# Altium schematic symbol library BSPD_Schlib.SchLib: 42 symbols (part 3 of 3)
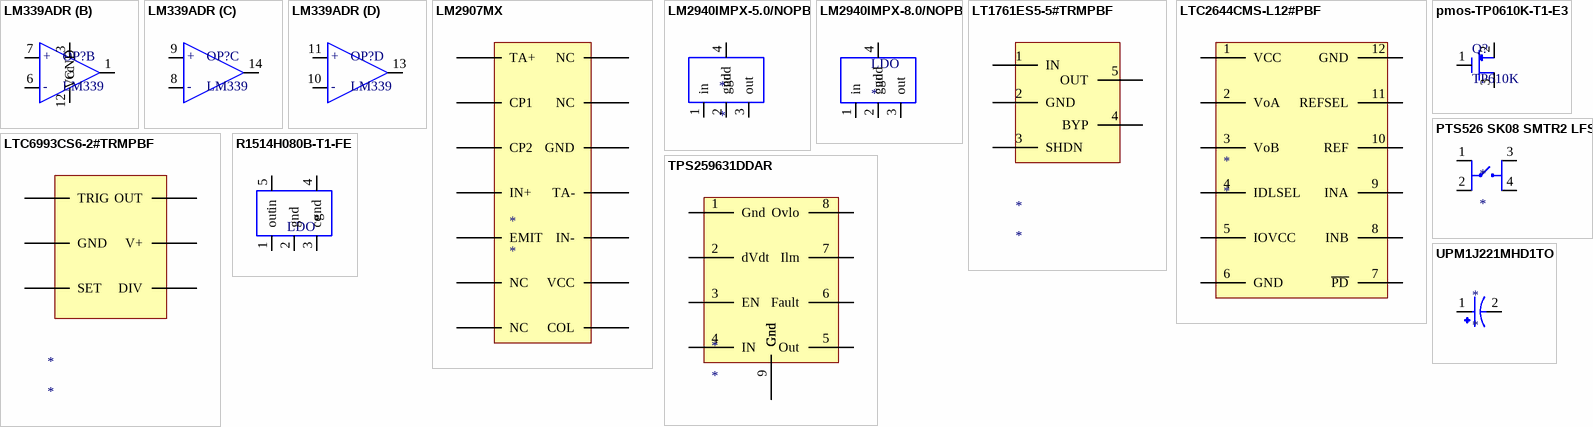
[diagram p3: symbols LM339ADR to UPM1J221MHD1TO]

## LM2940IMPX-5.0/NOPB
designator *
1-A, 26-V, high-PSRR, low-dropout voltage regulator 4-SOT-223 -40 to 85; Manufacturer: Texas Instruments; Manufacturer Part Number: LM2940IMPX-5.0/NOPB; Max Input Voltage: 26V; Output Voltage: 5V; Output Current: 1A; Number of Outputs: 1; Dropout Voltage: 500mV; Min Input Voltage: 6.25V; Polarity: Positive; Quiescent Current: 15mA; Output Type: Fixed; Supplier 1: Mouser; Supplier Part Number 1: 926-LM2940IMPX50NOPB; Stock 1: 2582; Pricing 1: 1 = 1.56000, 10 = 1.32000, 50 = 1.32000, 100 = 1.06000, 1000 = 0.71300, 10000 = 0.65000 (USD); Mount: Surface Mount; Case/Package: SOT-223; Number of Pins: 4; Contact Plating: Tin; Min Operating Temperature: -40°C; Max Operating Temperature: 125°C; Package Quantity: 2000; Packaging: Tape and Reel; Number of Regulators: 1; Max Output Current: 1A; Radiation Hardening: No; Lead Free: Lead Free; RoHS Compliant: Yes; ComponentLink1URL: https://datasheet.ciiva.com/15111/getdatasheetpartid-97988-15111694.pdf?src-supplier=Verical; ComponentLink1Description: https://datasheet.ciiva.com/15111/getdatasheetpartid-97988-15111694.pdf?src-supplier=Verical; ComponentLink2URL: https://datasheet.ciiva.com/6591/lm2940-n-6591606.pdf?src-supplier=Digi-Key; ComponentLink2Description: https://datasheet.ciiva.com/6591/lm2940-n-6591606.pdf?src-supplier=Digi-Key; ComponentLink3URL: https://datasheet.ciiva.com/6591/lm2940-n-6591605.pdf?src-supplier=Digi-Key; ComponentLink3Description: https://datasheet.ciiva.com/6591/lm2940-n-6591605.pdf?src-supplier=Digi-Key; ComponentLink4URL: https://octopart.com/click/track?ai=10049&ct=datasheets&sig=032ce27&at=physicalpart&sid=370&ppid=24813560&hlid=29978094&src-supplier=TI+store; ComponentLink4Description: https://octopart.com/click/track?ai=10049&ct=datasheets&sig=032ce27&at=physicalpart&sid=370&ppid=24813560&hlid=29978094&src-supplier=TI+store; ComponentLink5URL: http://datasheet.octopart.com/LM2940IMPX-5.0/NOPB-Texas-Instruments-datasheet-10621823.pdf?src-supplier=Verical; ComponentLink5Description: http://datasheet.octopart.com/LM2940IMPX-5.0/NOPB-Texas-Instruments-datasheet-10621823.pdf?src-supplier=Verical; ComponentLink6URL: http://datasheet.octopart.com/LM2940IMPX-5.0-NOPB-Texas-Instruments-datasheet-14775597.pdf?src-supplier=TI+store; ComponentLink6Description: http://datasheet.octopart.com/LM2940IMPX-5.0-NOPB-Texas-Instruments-datasheet-14775597.pdf?src-supplier=TI+store; ComponentLink7URL: http://datasheet.octopart.com/LM2940IMPX-5.0-NOPB-Texas-Instruments-datasheet-34156496.pdf?src-supplier=TI+store; ComponentLink7Description: http://datasheet.octopart.com/LM2940IMPX-5.0-NOPB-Texas-Instruments-datasheet-34156496.pdf?src-supplier=TI+store; ComponentLink8URL: http://datasheet.octopart.com/LM2940IMPX-5.0-NOPB-Texas-Instruments-datasheet-37140193.pdf?src-supplier=TI+store; ComponentLink8Description: http://datasheet.octopart.com/LM2940IMPX-5.0-NOPB-Texas-Instruments-datasheet-37140193.pdf?src-supplier=TI+store; ComponentLink9URL: http://sigma.octopart.com/49253063/technical_drawing/Texas-Instruments-LM2940IMPX-5.0-NOPB.pdf?src-supplier=TI+store; ComponentLink9Description: http://sigma.octopart.com/49253063/technical_drawing/Texas-Instruments-LM2940IMPX-5.0-NOPB.pdf?src-supplier=TI+store; ComponentLink10URL: http://datasheet.octopart.com/LM2940IMPX-5.0/NOPB-National-Semiconductor-datasheet-134675.pdf?src-supplier=Verical; ComponentLink10Description: http://datasheet.octopart.com/LM2940IMPX-5.0/NOPB-National-Semiconductor-datasheet-134675.pdf?src-supplier=Verical; ComponentLink11URL: http://datasheet.octopart.com/LM2940IMPX-5.0-NOPB-Texas-Instruments-datasheet-17727429.pdf?src-supplier=Upverter; ComponentLink11Description: http://datasheet.octopart.com/LM2940IMPX-5.0-NOPB-Texas-Instruments-datasheet-17727429.pdf?src-supplier=Upverter
pins: 1 in, 2 gnd, 3 out, 4 gnd

## LM2940IMPX-8.0/NOPB
designator LDO
LDO Regulator Pos 8V 1A 4-Pin(3+Tab) SOT-223 T/R; Manufacturer: Texas Instruments; Manufacturer Part Number: LM2940IMPX-8.0/NOPB; Dropout Voltage: 500mV; Number of Outputs: 1; Min Input Voltage: 9.4V; Max Input Voltage: 26V; Polarity: Positive; Quiescent Current: 15mA; Output Type: Fixed; Supplier 1: Mouser; Stock 1: 3837; Pricing 1: 1 = 1.55000, 10 = 1.32000, 100 = 1.05000, 500 = 0.92300, 1000 = 0.76500, 2000 = 0.71200 (USD); Mount: Surface Mount; Case/Package: TO-261-4; Number of Pins: 4; Min Operating Temperature: -40°C; Max Operating Temperature: 125°C; Packaging: Tape and Reel; Output Voltage: 8V; Package Quantity: 2000; Output Current: 1A; Max Output Current: 1A; Number of Regulators: 1; Radiation Hardening: No; Lead Free: Lead Free; ComponentLink1URL: https://datasheet.ciiva.com/6583/lm2940-n-6583894.pdf?src-supplier=Digi-Key; ComponentLink1Description: https://datasheet.ciiva.com/6583/lm2940-n-6583894.pdf?src-supplier=Digi-Key; ComponentLink2URL: https://datasheet.ciiva.com/14275/lm2940c-14275563.pdf?src-supplier=Avnet; ComponentLink2Description: https://datasheet.ciiva.com/14275/lm2940c-14275563.pdf?src-supplier=Avnet; ComponentLink3URL: https://datasheet.ciiva.com/26170/lm2940c-26170414.pdf?src-supplier=Avnet+Europe; ComponentLink3Description: https://datasheet.ciiva.com/26170/lm2940c-26170414.pdf?src-supplier=Avnet+Europe; ComponentLink4URL: https://octopart.com/click/track?ai=8629&ct=datasheets&sig=0204b2a&at=physicalpart&sid=370&ppid=24845755&hlid=24887964&src-supplier=TI+store; ComponentLink4Description: https://octopart.com/click/track?ai=8629&ct=datasheets&sig=0204b2a&at=physicalpart&sid=370&ppid=24845755&hlid=24887964&src-supplier=TI+store; ComponentLink5URL: http://datasheet.octopart.com/LM2940IMPX-8.0/NOPB-Texas-Instruments-datasheet-10621823.pdf?src-supplier=TI+store; ComponentLink5Description: http://datasheet.octopart.com/LM2940IMPX-8.0/NOPB-Texas-Instruments-datasheet-10621823.pdf?src-supplier=TI+store; ComponentLink6URL: http://datasheet.octopart.com/LM2940IMPX-8.0-NOPB-Texas-Instruments-datasheet-14775597.pdf?src-supplier=TI+store; ComponentLink6Description: http://datasheet.octopart.com/LM2940IMPX-8.0-NOPB-Texas-Instruments-datasheet-14775597.pdf?src-supplier=TI+store; ComponentLink7URL: http://datasheet.octopart.com/LM2940IMPX-8.0-NOPB-Texas-Instruments-datasheet-34156496.pdf?src-supplier=TI+store; ComponentLink7Description: http://datasheet.octopart.com/LM2940IMPX-8.0-NOPB-Texas-Instruments-datasheet-34156496.pdf?src-supplier=TI+store; ComponentLink8URL: http://datasheet.octopart.com/LM2940IMPX-8.0-NOPB-Texas-Instruments-datasheet-37140193.pdf?src-supplier=TI+store; ComponentLink8Description: http://datasheet.octopart.com/LM2940IMPX-8.0-NOPB-Texas-Instruments-datasheet-37140193.pdf?src-supplier=TI+store; ComponentLink9URL: http://sigma.octopart.com/49253063/technical_drawing/Texas-Instruments-LM2940IMPX-8.0-NOPB.pdf?src-supplier=TI+store; ComponentLink9Description: http://sigma.octopart.com/49253063/technical_drawing/Texas-Instruments-LM2940IMPX-8.0-NOPB.pdf?src-supplier=TI+store; Supplier Part Number 1: 926-LM2940IMPX80NOPB
footprint LM2940IMPX-8.0/NOPB (SOT223, 4-Leads, Body 6.50x7.00mm (avg), Pitch 2.30mm, IPC Medium Density)
pins: 1 in, 2 gnd, 3 out, 4 gnd

## LT1761ES5-5#TRMPBF
designator *
LDO Regulator Pos 5V 0.1A Automotive 5-Pin TSOT-23 T/R; Manufacturer: Analog Devices / Linear Technology; Manufacturer Part Number: LT1761ES5-5#TRMPBF; Output Current: 100mA; Max Supply Voltage: 20V; Min Supply Voltage: 6V; Dropout Voltage: 300mV; Number of Outputs: 1; Min Input Voltage: 1.8V; Min Current Limit: 110mA; Quiescent Current: 20uA; Reference Voltage: 1.22V; Polarity: Positive; Power Supply Rejection Ratio (PSRR): 65dB; Output Type: Fixed; Supplier 1: Mouser; Supplier Part Number 1: 584-1761ES5-5TRMPBF; Stock 1: 51765; Pricing 1: 1 = 2.71000, 10 = 2.44000, 50 = 2.44000, 100 = 1.66000, 1000 = 1.24000, 10000 = 1.22000 (USD); Case/Package: TSOT; Number of Pins: 5; Min Operating Temperature: -40°C; Max Operating Temperature: 125°C; Max Output Current: 100mA; Package Quantity: 1; Output Voltage: 5V; Packaging: Tape and Reel; Max Input Voltage: 20V; Nominal Output Voltage: 5V; Number of Regulators: 1; Max Output Voltage: 5V; Termination: SMD/SMT; Operating Supply Current: 20uA; Series: -; Length: 2.9mm; Width: 1.5mm; Height: 0.9mm; REACH SVHC: No SVHC; Lead Free: Lead Free; RoHS Compliant: Yes; ComponentLink1URL: https://datasheet.ciiva.com/26905/lt1761es5-5-trmpbf-26905850.pdf?src-supplier=IIIC; ComponentLink1Description: https://datasheet.ciiva.com/26905/lt1761es5-5-trmpbf-26905850.pdf?src-supplier=IIIC; ComponentLink2URL: https://datasheet.ciiva.com/2041/2732-2041144.pdf?src-supplier=Digi-Key; ComponentLink2Description: https://datasheet.ciiva.com/2041/2732-2041144.pdf?src-supplier=Digi-Key; ComponentLink3URL: https://datasheet.ciiva.com/2041/2732-2041145.pdf?src-supplier=Digi-Key; ComponentLink3Description: https://datasheet.ciiva.com/2041/2732-2041145.pdf?src-supplier=Digi-Key; ComponentLink4URL: https://datasheet.ciiva.com/2041/2732-2041146.pdf?src-supplier=Digi-Key; ComponentLink4Description: https://datasheet.ciiva.com/2041/2732-2041146.pdf?src-supplier=Digi-Key; ComponentLink5URL: https://datasheet.ciiva.com/8041/1563033-8041754.pdf?src-supplier=Element14; ComponentLink5Description: https://datasheet.ciiva.com/8041/1563033-8041754.pdf?src-supplier=Element14; ComponentLink6URL: http://datasheet.octopart.com/LT1761ES5-5%23TRMPBF-Linear-Technology-datasheet-10685672.pdf?src-supplier=Upverter; ComponentLink6Description: http://datasheet.octopart.com/LT1761ES5-5%23TRMPBF-Linear-Technology-datasheet-10685672.pdf?src-supplier=Upverter; ComponentLink7URL: http://datasheet.octopart.com/LT1761ES5-5%23TRMPBF-Linear-Technology-datasheet-508795.pdf?src-supplier=Component+Distributors+Inc.; ComponentLink7Description: http://datasheet.octopart.com/LT1761ES5-5%23TRMPBF-Linear-Technology-datasheet-508795.pdf?src-supplier=Component+Distributors+Inc.; ComponentLink8URL: http://datasheet.octopart.com/LT1761ES5-5%23TRMPBF-Linear-Technology-datasheet-10379881.pdf?src-supplier=Farnell; ComponentLink8Description: http://datasheet.octopart.com/LT1761ES5-5%23TRMPBF-Linear-Technology-datasheet-10379881.pdf?src-supplier=Farnell; ComponentLink9URL: http://datasheet.octopart.com/LT1761ES5-5%23TRMPBF-Linear-Technology-datasheet-8105272.pdf?src-supplier=Nu+Horizons; ComponentLink9Description: http://datasheet.octopart.com/LT1761ES5-5%23TRMPBF-Linear-Technology-datasheet-8105272.pdf?src-supplier=Nu+Horizons; ComponentLink10URL: http://datasheet.octopart.com/LT1761ES5-5%23TRMPBF-Linear-Technology-datasheet-8467011.pdf?src-supplier=Nu+Horizons; ComponentLink10Description: http://datasheet.octopart.com/LT1761ES5-5%23TRMPBF-Linear-Technology-datasheet-8467011.pdf?src-supplier=Nu+Horizons; ComponentLink11URL: http://datasheet.octopart.com/LT1761ES5-5%23TRMPBF-Linear-Technology-datasheet-526547.pdf?src-supplier=Farnell; ComponentLink11Description: http://datasheet.octopart.com/LT1761ES5-5%23TRMPBF-Linear-Technology-datasheet-526547.pdf?src-supplier=Farnell; ComponentLink12URL: http://datasheet.octopart.com/LT1761ES5-5%23TRMPBF-Linear-Technology-datasheet-530213.pdf?src-supplier=Farnell; ComponentLink12Description: http://datasheet.octopart.com/LT1761ES5-5%23TRMPBF-Linear-Technology-datasheet-530213.pdf?src-supplier=Farnell; ComponentLink13URL: http://datasheet.octopart.com/LT1761ES5-5%23TRMPBF-Linear-Technology-datasheet-15918907.pdf?src-supplier=IIIC; ComponentLink13Description: http://datasheet.octopart.com/LT1761ES5-5%23TRMPBF-Linear-Technology-datasheet-15918907.pdf?src-supplier=IIIC; ComponentLink14URL: http://sigma.octopart.com/57691980/technical_drawing/Linear-Technology-LT1761ES5-5%23TRMPBF.pdf?src-supplier=Linear+Technology; ComponentLink14Description: http://sigma.octopart.com/57691980/technical_drawing/Linear-Technology-LT1761ES5-5%23TRMPBF.pdf?src-supplier=Linear+Technology; Supplier 2: Mouser; Supplier Part Number 2: 595-TPS259631DDAR; Stock 2: 3910; Pricing 2: 1 = 0.86000, 10 = 0.78200, 50 = 0.78200, 100 = 0.57000, 1000 = 0.37100, 10000 = 0.33700 (USD); ComponentLink15URL: https://octopart.com/click/track?ai=10049&ct=datasheets&sig=07573b3&at=physicalpart&sid=370&ppid=103943074&hlid=30203718&src-supplier=TI+store; ComponentLink15Description: https://octopart.com/click/track?ai=10049&ct=datasheets&sig=07573b3&at=physicalpart&sid=370&ppid=103943074&hlid=30203718&src-supplier=TI+store; ComponentLink16URL: http://sigma.octopart.com/104526336/technical_drawing/Texas-Instruments-TPS259631DDAR.pdf?src-supplier=TI+store; ComponentLink16Description: http://sigma.octopart.com/104526336/technical_drawing/Texas-Instruments-TPS259631DDAR.pdf?src-supplier=TI+store; ComponentLink17URL: http://datasheet.octopart.com/TPS259631DDAR-Texas-Instruments-datasheet-149164929.pdf?src-supplier=Upverter; ComponentLink17Description: http://datasheet.octopart.com/TPS259631DDAR-Texas-Instruments-datasheet-149164929.pdf?src-supplier=Upverter
pins: 1 IN, 2 GND, 3 SHDN, 4 BYP, 5 OUT

## LTC2644CMS-L12#PBF
designator *
Digital To Analog Converter Dac, Dual, 12 Bit, Msop-12; Manufacturer: Analog Devices; Manufacturer Part Number: LTC2644CMS-L12#PBF; Resolution: 12b; Number of Bits: 12; Number of D/A Converters: 2; Settling Time: 7.8us; Differential Output: No; Interface: PWM; Sampling Rate: 6.25KS/s; Supplier 1: Mouser; Supplier Part Number 1: 584-C2644CMS-L12PBF; Stock 1: 642; Pricing 1: 1 = 6.21000, 10 = 5.61000, 50 = 4.90000, 100 = 4.20000, 1000 = 3.47000, 10000 = 3.47000 (USD); Case/Package: MSOP; Number of Pins: 12; Min Operating Temperature: 0°C; Max Operating Temperature: 70°C; Packaging: Rail/Tube; REACH SVHC: No SVHC; ComponentLink1URL: http://www.farnell.com/datasheets/2265704.pdf?src-supplier=Farnell; ComponentLink1Description: http://www.farnell.com/datasheets/2265704.pdf?src-supplier=Farnell; ComponentLink2URL: http://www.linear.com/docs/45234?src-supplier=Digi-Key; ComponentLink2Description: http://www.linear.com/docs/45234?src-supplier=Digi-Key; ComponentLink3URL: http://datasheet.octopart.com/LTC2644CMS-L12%23PBF-Linear-Technology-datasheet-32866045.pdf?src-supplier=Linear+Technology; ComponentLink3Description: http://datasheet.octopart.com/LTC2644CMS-L12%23PBF-Linear-Technology-datasheet-32866045.pdf?src-supplier=Linear+Technology; ComponentLink4URL: http://datasheet.octopart.com/LTC2644CMS-L12%23PBF-Linear-Technology-datasheet-81453756.pdf?src-supplier=Newark; ComponentLink4Description: http://datasheet.octopart.com/LTC2644CMS-L12%23PBF-Linear-Technology-datasheet-81453756.pdf?src-supplier=Newark; ComponentLink5URL: http://sigma.octopart.com/57695431/technical_drawing/Linear-Technology-LTC2644CMS-L12%23PBF.pdf?src-supplier=Linear+Technology; ComponentLink5Description: http://sigma.octopart.com/57695431/technical_drawing/Linear-Technology-LTC2644CMS-L12%23PBF.pdf?src-supplier=Linear+Technology
footprint SOP65P490X110-12N
pins: 1 VCC, 2 VoA, 3 VoB, 4 IDLSEL, 5 IOVCC, 6 GND, 7 ~{PD}, 8 INB, 9 INA, 10 REF, 11 REFSEL, 12 GND

## LTC6993CS6-2#TRMPBF
designator *
Monostable Multivibrator Single-Element 0°C 70°C Automotive 6-Pin TSOT-23 T/R; Manufacturer: Analog Devices / Linear Technology; Manufacturer Part Number: LTC6993CS6-2#TRMPBF; Propagation Delay: 11ns; Min Supply Voltage: 2.25V; Max Supply Voltage: 5.5V; Number of Timers/Counters: 1; High Level Output Current: -16mA; Low Level Output Current: 16mA; Turn-On Delay Time: 28ns; Schmitt Trigger Input: No; Supplier 1: Mouser; Supplier Part Number 1: 584-C6993CS6-2TRMPBF; Stock 1: 27266; Pricing 1: 1 = 3.53000, 10 = 3.17000, 50 = 2.66000, 100 = 2.27000, 1000 = 1.77000, 10000 = 1.75000 (USD); Case/Package: SOT-23-6; Number of Pins: 6; Min Operating Temperature: 0°C; Max Operating Temperature: 70°C; Package Quantity: 1; Packaging: Tape and Reel; Number of Elements: 1; Logic Function: Multivibrator; Independent Circuits: 1; Series: LTC®6993; Radiation Hardening: No; REACH SVHC: No SVHC; RoHS Compliant: Yes; ComponentLink1URL: https://datasheet.ciiva.com/1885/29726-1885040.pdf?src-supplier=Digi-Key; ComponentLink1Description: https://datasheet.ciiva.com/1885/29726-1885040.pdf?src-supplier=Digi-Key; ComponentLink2URL: https://datasheet.ciiva.com/15095/getdatasheetpartid-365076-15095264.pdf?src-supplier=Verical; ComponentLink2Description: https://datasheet.ciiva.com/15095/getdatasheetpartid-365076-15095264.pdf?src-supplier=Verical; ComponentLink3URL: https://datasheet.ciiva.com/1885/29726-1885041.pdf?src-supplier=Digi-Key; ComponentLink3Description: https://datasheet.ciiva.com/1885/29726-1885041.pdf?src-supplier=Digi-Key; ComponentLink4URL: https://datasheet.ciiva.com/28646/1642036-28646037.pdf?src-supplier=Element14; ComponentLink4Description: https://datasheet.ciiva.com/28646/1642036-28646037.pdf?src-supplier=Element14; ComponentLink5URL: https://datasheet.ciiva.com/1142/1441932-1142200.pdf?src-supplier=Farnell; ComponentLink5Description: https://datasheet.ciiva.com/1142/1441932-1142200.pdf?src-supplier=Farnell; ComponentLink6URL: https://datasheet.ciiva.com/1142/1441932-1142201.pdf?src-supplier=Farnell; ComponentLink6Description: https://datasheet.ciiva.com/1142/1441932-1142201.pdf?src-supplier=Farnell; ComponentLink7URL: https://datasheet.ciiva.com/1139/1642036-1139629.pdf?src-supplier=Element14; ComponentLink7Description: https://datasheet.ciiva.com/1139/1642036-1139629.pdf?src-supplier=Element14; ComponentLink8URL: https://datasheet.ciiva.com/31419/1642036-31419357.pdf?src-supplier=Farnell; ComponentLink8Description: https://datasheet.ciiva.com/31419/1642036-31419357.pdf?src-supplier=Farnell; ComponentLink9URL: https://datasheet.ciiva.com/1885/29726-1885039.pdf?src-supplier=Digi-Key; ComponentLink9Description: https://datasheet.ciiva.com/1885/29726-1885039.pdf?src-supplier=Digi-Key; ComponentLink10URL: http://datasheet.octopart.com/LTC6993CS6-2%23TRMPBF-Linear-Technology-datasheet-10978048.pdf?src-supplier=TME; ComponentLink10Description: http://datasheet.octopart.com/LTC6993CS6-2%23TRMPBF-Linear-Technology-datasheet-10978048.pdf?src-supplier=TME; ComponentLink11URL: http://datasheet.octopart.com/LTC6993CS6-2%23TRMPBF-Linear-Technology-datasheet-58871654.pdf?src-supplier=Farnell; ComponentLink11Description: http://datasheet.octopart.com/LTC6993CS6-2%23TRMPBF-Linear-Technology-datasheet-58871654.pdf?src-supplier=Farnell; ComponentLink12URL: http://datasheet.octopart.com/LTC6993CS6-2%23TRMPBF-Linear-Technology-datasheet-10027958.pdf?src-supplier=Element14; ComponentLink12Description: http://datasheet.octopart.com/LTC6993CS6-2%23TRMPBF-Linear-Technology-datasheet-10027958.pdf?src-supplier=Element14; ComponentLink13URL: http://datasheet.octopart.com/LTC6993CS6-2%23TRMPBF-Linear-Technology-datasheet-10653347.pdf?src-supplier=Arrow+Electronics; ComponentLink13Description: http://datasheet.octopart.com/LTC6993CS6-2%23TRMPBF-Linear-Technology-datasheet-10653347.pdf?src-supplier=Arrow+Electronics; ComponentLink14URL: http://datasheet.octopart.com/LTC6993CS6-2%23TRMPBF-Linear-Technology-datasheet-10379881.pdf?src-supplier=Farnell; ComponentLink14Description: http://datasheet.octopart.com/LTC6993CS6-2%23TRMPBF-Linear-Technology-datasheet-10379881.pdf?src-supplier=Farnell; ComponentLink15URL: http://sigma.octopart.com/57691988/technical_drawing/Linear-Technology-LTC6993CS6-2%23TRMPBF.pdf?src-supplier=Linear+Technology; ComponentLink15Description: http://sigma.octopart.com/57691988/technical_drawing/Linear-Technology-LTC6993CS6-2%23TRMPBF.pdf?src-supplier=Linear+Technology
footprint TSOT-23_S6
pins: 1 TRIG, 2 GND, 3 SET, 4 DIV, 5 V+, 6 OUT

## pmos-TP0610K-T1-E3
designator Q?, comment TP610K
Mosfet; P-ch; Vdss -60V; Rds(on) 10 Ohms; Id -185MA; TO-236 (SOT-23); Pd 350MW; -55DEGC; Manufacturer: Vishay; Manufacturer Part Number: TP0610K-T1-E3; Number of Elements: 1; Nominal Vgs: -3V; Rds On Max: 6R; Input Capacitance: 23pF; Drain to Source Voltage (Vdss): 60V; Continuous Drain Current (ID): 185mA; Drain to Source Resistance: 10R; Gate to Source Voltage (Vgs): 20V; Turn-On Delay Time: 20ns; Element Configuration: Single; Supplier 1: Mouser; Supplier Part Number 1: 781-TP0610K-E3; Stock 1: 32221; Pricing 1: 1 = 0.38000, 10 = 0.31200, 100 = 0.21900, 500 = 0.16400, 1000 = 0.13700, 3000 = 0.13000 (USD); Mount: Surface Mount; Case/Package: TO-236; Number of Pins: 3; Weight: 0.050717oz; Min Operating Temperature: -55°C; Max Operating Temperature: 150°C; Max Power Dissipation: 350mW; Packaging: Tape and Reel; Package Quantity: 1; Power Dissipation: 350mW; Threshold Voltage: -3V; Drain to Source Breakdown Voltage: -60V; Number of Channels: 1; On-State Resistance: 10R; Length: 3.04mm; Height: 1.02mm; Width: 1.4mm; Radiation Hardening: No; REACH SVHC: Unknown; Lead Free: Lead Free; ComponentLink1URL: https://datasheet.ciiva.com/7371/1747937-7371045.pdf?src-supplier=Newark; ComponentLink1Description: https://datasheet.ciiva.com/7371/1747937-7371045.pdf?src-supplier=Newark; ComponentLink2URL: https://datasheet.ciiva.com/26942/getdatasheetpartid-110418-26942995.pdf?src-supplier=Verical; ComponentLink2Description: https://datasheet.ciiva.com/26942/getdatasheetpartid-110418-26942995.pdf?src-supplier=Verical; ComponentLink3URL: https://datasheet.ciiva.com/26790/tp0610k-t1-e3-26790388.pdf?src-supplier=IIIC; ComponentLink3Description: https://datasheet.ciiva.com/26790/tp0610k-t1-e3-26790388.pdf?src-supplier=IIIC; ComponentLink4URL: https://datasheet.ciiva.com/18432/70026028-18432550.pdf?src-supplier=Allied+Electronics; ComponentLink4Description: https://datasheet.ciiva.com/18432/70026028-18432550.pdf?src-supplier=Allied+Electronics; ComponentLink5URL: https://datasheet.ciiva.com/22754/1747937-22754554.pdf?src-supplier=Farnell; ComponentLink5Description: https://datasheet.ciiva.com/22754/1747937-22754554.pdf?src-supplier=Farnell; ComponentLink6URL: https://datasheet.ciiva.com/7789/1747937-7789084.pdf?src-supplier=Element14; ComponentLink6Description: https://datasheet.ciiva.com/7789/1747937-7789084.pdf?src-supplier=Element14; ComponentLink7URL: https://datasheet.ciiva.com/8114/tp0610k-8114892.pdf?src-supplier=Avnet; ComponentLink7Description: https://datasheet.ciiva.com/8114/tp0610k-8114892.pdf?src-supplier=Avnet; ComponentLink8URL: https://datasheet.ciiva.com/11161/tp0610k-11161438.pdf?src-supplier=Avnet; ComponentLink8Description: https://datasheet.ciiva.com/11161/tp0610k-11161438.pdf?src-supplier=Avnet; ComponentLink9URL: https://datasheet.ciiva.com/46398/1747937-46398094.pdf?src-supplier=Element14; ComponentLink9Description: https://datasheet.ciiva.com/46398/1747937-46398094.pdf?src-supplier=Element14; ComponentLink10URL: https://datasheet.ciiva.com/26139/tp0610k-26139160.pdf?src-supplier=Avnet+Europe; ComponentLink10Description: https://datasheet.ciiva.com/26139/tp0610k-26139160.pdf?src-supplier=Avnet+Europe; ComponentLink11URL: https://datasheet.ciiva.com/6388/tp0610k-6388255.pdf?src-supplier=Digi-Key; ComponentLink11Description: https://datasheet.ciiva.com/6388/tp0610k-6388255.pdf?src-supplier=Digi-Key; ComponentLink12URL: http://datasheet.octopart.com/TP0610K-T1-E3-Vishay-datasheet-10031356.pdf?src-supplier=Farnell; ComponentLink12Description: http://datasheet.octopart.com/TP0610K-T1-E3-Vishay-datasheet-10031356.pdf?src-supplier=Farnell; ComponentLink13URL: http://datasheet.octopart.com/TP0610K-T1-E3-Vishay-datasheet-12533050.pdf?src-supplier=Farnell; ComponentLink13Description: http://datasheet.octopart.com/TP0610K-T1-E3-Vishay-datasheet-12533050.pdf?src-supplier=Farnell; ComponentLink14URL: http://datasheet.octopart.com/TP0610K-T1-E3-Vishay-datasheet-12550487.pdf?src-supplier=Farnell; ComponentLink14Description: http://datasheet.octopart.com/TP0610K-T1-E3-Vishay-datasheet-12550487.pdf?src-supplier=Farnell; ComponentLink15URL: http://datasheet.octopart.com/TP0610K-T1-E3-Vishay-datasheet-21270958.pdf?src-supplier=Element14; ComponentLink15Description: http://datasheet.octopart.com/TP0610K-T1-E3-Vishay-datasheet-21270958.pdf?src-supplier=Element14; ComponentLink16URL: http://datasheet.octopart.com/TP0610K-T1-E3-Vishay-datasheet-62319398.pdf?src-supplier=Newark; ComponentLink16Description: http://datasheet.octopart.com/TP0610K-T1-E3-Vishay-datasheet-62319398.pdf?src-supplier=Newark; ComponentLink17URL: http://datasheet.octopart.com/TP0610K-T1-E3-Vishay-datasheet-8327186.pdf?src-supplier=Element14; ComponentLink17Description: http://datasheet.octopart.com/TP0610K-T1-E3-Vishay-datasheet-8327186.pdf?src-supplier=Element14; ComponentLink18URL: http://datasheet.octopart.com/TP0610K-T1-E3-Vishay-datasheet-8373677.pdf?src-supplier=Element14; ComponentLink18Description: http://datasheet.octopart.com/TP0610K-T1-E3-Vishay-datasheet-8373677.pdf?src-supplier=Element14; ComponentLink19URL: http://datasheet.octopart.com/TP0610K-T1-E3-Vishay-datasheet-8823972.pdf?src-supplier=Element14; ComponentLink19Description: http://datasheet.octopart.com/TP0610K-T1-E3-Vishay-datasheet-8823972.pdf?src-supplier=Element14; ComponentLink20URL: http://datasheet.octopart.com/TP0610K-T1-E3-Vishay-datasheet-41195321.pdf?src-supplier=Farnell; ComponentLink20Description: http://datasheet.octopart.com/TP0610K-T1-E3-Vishay-datasheet-41195321.pdf?src-supplier=Farnell; ComponentLink21URL: http://datasheet.octopart.com/TP0610K-T1-E3-Vishay-datasheet-48685623.pdf?src-supplier=Newark; ComponentLink21Description: http://datasheet.octopart.com/TP0610K-T1-E3-Vishay-datasheet-48685623.pdf?src-supplier=Newark; ComponentLink22URL: http://datasheet.octopart.com/TP0610K-T1-E3-Vishay-datasheet-62319399.pdf?src-supplier=Element14; ComponentLink22Description: http://datasheet.octopart.com/TP0610K-T1-E3-Vishay-datasheet-62319399.pdf?src-supplier=Element14; ComponentLink23URL: http://datasheet.octopart.com/TP0610K-T1-E3-Vishay-datasheet-74065.pdf?src-supplier=Newark; ComponentLink23Description: http://datasheet.octopart.com/TP0610K-T1-E3-Vishay-datasheet-74065.pdf?src-supplier=Newark; ComponentLink24URL: http://datasheet.octopart.com/TP0610K-T1-E3-Vishay-datasheet-9986767.pdf?src-supplier=Allied+Electronics; ComponentLink24Description: http://datasheet.octopart.com/TP0610K-T1-E3-Vishay-datasheet-9986767.pdf?src-supplier=Allied+Electronics; ComponentLink25URL: http://datasheet.octopart.com/TP0610K-T1-E3-Vishay-datasheet-11783167.pdf?src-supplier=Arrow; ComponentLink25Description: http://datasheet.octopart.com/TP0610K-T1-E3-Vishay-datasheet-11783167.pdf?src-supplier=Arrow; ComponentLink26URL: http://datasheet.octopart.com/TP0610K-T1-E3-Vishay-datasheet-14187242.pdf?src-supplier=IIIC; ComponentLink26Description: http://datasheet.octopart.com/TP0610K-T1-E3-Vishay-datasheet-14187242.pdf?src-supplier=IIIC
footprint TP0610K-T1-E3 (SOT23, 3-Leads, Body 2.92x2.37mm, Pitch 0.95mm, IPC Medium Density)
pins: 1, 2, 3

## PTS526 SK08 SMTR2 LFS
designator *
Switch Tactile N.O. SPST Flush Round Button Gull Wing 0.05A 12VDC 200000Cycles 2.45N SMD T/R; Manufacturer: C&K Components; Manufacturer Part Number: PTS526 SK08 SMTR2 LFS; Supplier 1: Digi-Key; Supplier Part Number 1: CKN12219-1-ND; Stock 1: 4182; Pricing 1: 1 = 0.12000, 10 = 0.11200, 25 = 0.10600, 100 = 0.09630, 250 = 0.09052, 500 = 0.08282, 1000 = 0.06934, 2500 = 0.06741 (USD); ComponentLink1URL: http://datasheet.octopart.com/PTS526SK08SMTR2LFS-C%26K-Components-datasheet-138817219.pdf?src-supplier=Future+Electronics; ComponentLink1Description: http://datasheet.octopart.com/PTS526SK08SMTR2LFS-C%26K-Components-datasheet-138817219.pdf?src-supplier=Future+Electronics; Supplier 2: Mouser; Supplier Part Number 2: 612-LL3301NF065QG
footprint PTS526SKG15SMTR2LFS
pins: 1, 2, 3, 4

## R1514H080B-T1-FE
designator ?, comment LDO
LDO Regulator Pos 8V 0.15A Automotive 6-Pin(5+Tab) SOT-89 T/R; Manufacturer: Ricoh; Manufacturer Part Number: R1514H080B-T1-FE; Dropout Voltage: 200mV; Output Voltage Accuracy: 2%; Supplier 1: Mouser; Stock 1: 1000; Pricing 1: 1 = 1.47000, 10 = 1.25000, 100 = 0.96100, 500 = 0.84900, 1000 = 0.67000, 2000 = 0.57100 (USD); Case/Package: SOT-89-5; Output Voltage: 8V; Lead Free: Lead Free; Supplier Part Number 1: 848-R1514H080BT1FE
footprint R1514H080B-T1-FE-V2 (SOT89, 3-Leads, Body 4.50x2.50mm, Pitch 1.50mm, Lead Span 3.5mm, IPC Medium Density)
pins: 1 out, 2 gnd, 3 ce, 4 gnd, 5 in

## TPS259631DDAR
designator *
2.7V to 19 V 0.125A to 2A 89mOhm eFuse with Accurate Current Monitor and Fast Overvoltage Protection 8-Pin SOIC...; Manufacturer: Texas Instruments; Manufacturer Part Number: TPS259631DDAR; Supplier 1: Mouser; Supplier Part Number 1: 595-TPS259631DDAR; Stock 1: 3910; Pricing 1: 1 = 0.86000, 10 = 0.78200, 50 = 0.78200, 100 = 0.57000, 1000 = 0.37100, 10000 = 0.33700 (USD); ComponentLink1URL: https://octopart.com/click/track?ai=10049&ct=datasheets&sig=07573b3&at=physicalpart&sid=370&ppid=103943074&hlid=30203718&src-supplier=TI+store; ComponentLink1Description: https://octopart.com/click/track?ai=10049&ct=datasheets&sig=07573b3&at=physicalpart&sid=370&ppid=103943074&hlid=30203718&src-supplier=TI+store; ComponentLink2URL: http://sigma.octopart.com/104526336/technical_drawing/Texas-Instruments-TPS259631DDAR.pdf?src-supplier=TI+store; ComponentLink2Description: http://sigma.octopart.com/104526336/technical_drawing/Texas-Instruments-TPS259631DDAR.pdf?src-supplier=TI+store; ComponentLink3URL: http://datasheet.octopart.com/TPS259631DDAR-Texas-Instruments-datasheet-149164929.pdf?src-supplier=Upverter; ComponentLink3Description: http://datasheet.octopart.com/TPS259631DDAR-Texas-Instruments-datasheet-149164929.pdf?src-supplier=Upverter
footprint VREG_LM5017MR/NOPB
pins: 1 Gnd, 2 dVdt, 3 EN, 4 IN, 5 Out, 6 Fault, 7 Ilm, 8 Ovlo, 9 Gnd, 10 Gnd, 11 Gnd, 12 Gnd, 13 Gnd, 14 Gnd, 15 Gnd, 16 Gnd, 17 Gnd

## UPM1J221MHD1TO
designator *
Cap Aluminum 220uF 63V 20% (12.5 X 20mm) Radial 7.5mm 835mA 5000h 105°C Ammo Pack; Manufacturer: Nichicon; Manufacturer Part Number: UPM1J221MHD1TO; Dielectric Material: Aluminium; Impedance: 65mR; Life (Hours): 5000Hour; Leakage Current: 415.8uA; Dissipation Factor: 0.08%; Lead Diameter: 0.6mm; Supplier 1: Mouser; Supplier Part Number 1: 647-UPM1J221MHD1TO; Stock 1: 485; Pricing 1: 1 = 0.84000, 10 = 0.63700, 50 = 0.53000, 100 = 0.45600, 1000 = 0.30300, 10000 = 0.26900 (USD); Mount: Through Hole; Case/Package: Radial; Number of Pins: 2; Min Operating Temperature: -55°C; Max Operating Temperature: 105°C; Capacitance: 220uF; Tolerance: 20%; Voltage Rating: 63V; Ripple Current: 835mA; Package Quantity: 1; Packaging: Tape and Reel; Voltage Rating (DC): 63V; Termination: Radial; Voltage: 63V; Series: PM; Construction: RADIAL; Diameter: 12.5mm; Length: 20mm; Height: 20mm; Lead Pitch: 5mm; Height - Seated (Max): 0.866inch; Radiation Hardening: No; REACH SVHC: No SVHC; Lead Free: Lead Free; RoHS Compliant: Yes; ComponentLink1URL: https://datasheet.ciiva.com/6136/e-pm-6136976.pdf?src-supplier=Farnell; ComponentLink1Description: https://datasheet.ciiva.com/6136/e-pm-6136976.pdf?src-supplier=Farnell; ComponentLink2URL: https://datasheet.ciiva.com/16289/e-pm-16289237.pdf?src-supplier=Future+Electronics; ComponentLink2Description: https://datasheet.ciiva.com/16289/e-pm-16289237.pdf?src-supplier=Future+Electronics; ComponentLink3URL: https://datasheet.ciiva.com/29547/e-pm-29547336.pdf?src-supplier=Digi-Key; ComponentLink3Description: https://datasheet.ciiva.com/29547/e-pm-29547336.pdf?src-supplier=Digi-Key; ComponentLink4URL: https://datasheet.ciiva.com/14604/70187696-14604329.pdf?src-supplier=Allied+Electronics; ComponentLink4Description: https://datasheet.ciiva.com/14604/70187696-14604329.pdf?src-supplier=Allied+Electronics; ComponentLink5URL: https://datasheet.ciiva.com/29547/e-pm-29547337.pdf?src-supplier=Digi-Key; ComponentLink5Description: https://datasheet.ciiva.com/29547/e-pm-29547337.pdf?src-supplier=Digi-Key; ComponentLink6URL: https://datasheet.ciiva.com/7907/e-pm-7907421.pdf?src-supplier=Element14; ComponentLink6Description: https://datasheet.ciiva.com/7907/e-pm-7907421.pdf?src-supplier=Element14; ComponentLink7URL: https://datasheet.ciiva.com/11684/e-pm-11684319.pdf?src-supplier=Avnet; ComponentLink7Description: https://datasheet.ciiva.com/11684/e-pm-11684319.pdf?src-supplier=Avnet; ComponentLink8URL: http://datasheet.octopart.com/UPM1J221MHD1TO-Nichicon-datasheet-8702619.pdf?src-supplier=Element14; ComponentLink8Description: http://datasheet.octopart.com/UPM1J221MHD1TO-Nichicon-datasheet-8702619.pdf?src-supplier=Element14; ComponentLink9URL: http://datasheet.octopart.com/UPM1J221MHD1TO-Nichicon-datasheet-41194115.pdf?src-supplier=Farnell; ComponentLink9Description: http://datasheet.octopart.com/UPM1J221MHD1TO-Nichicon-datasheet-41194115.pdf?src-supplier=Farnell; ComponentLink10URL: http://datasheet.octopart.com/UPM1J221MHD1TO-Nichicon-datasheet-12512882.pdf?src-supplier=Element14; ComponentLink10Description: http://datasheet.octopart.com/UPM1J221MHD1TO-Nichicon-datasheet-12512882.pdf?src-supplier=Element14; ComponentLink11URL: http://datasheet.octopart.com/UPM1J221MHD1TO-Nichicon-datasheet-8835184.pdf?src-supplier=Element14; ComponentLink11Description: http://datasheet.octopart.com/UPM1J221MHD1TO-Nichicon-datasheet-8835184.pdf?src-supplier=Element14; ComponentLink12URL: http://datasheet.octopart.com/UPM1J221MHD1TO-Nichicon-datasheet-538736.pdf?src-supplier=Future+Electronics; ComponentLink12Description: http://datasheet.octopart.com/UPM1J221MHD1TO-Nichicon-datasheet-538736.pdf?src-supplier=Future+Electronics; ComponentLink13URL: http://datasheet.octopart.com/UPM1J221MHD1TO-Nichicon-datasheet-5316055.pdf?src-supplier=Element14; ComponentLink13Description: http://datasheet.octopart.com/UPM1J221MHD1TO-Nichicon-datasheet-5316055.pdf?src-supplier=Element14; ComponentLink14URL: http://datasheet.octopart.com/UPM1J221MHD1TO-Nichicon-datasheet-41169139.pdf?src-supplier=Element14; ComponentLink14Description: http://datasheet.octopart.com/UPM1J221MHD1TO-Nichicon-datasheet-41169139.pdf?src-supplier=Element14
footprint CAPPRD500W60D1250H2200
pins: 1 P, 2 N